# EAGLE library part LM324N (library LM324N)
Check availability <https://pricing.snapeda.com/parts/LM324N/STMicroelectronics/view-part?ref=eda>
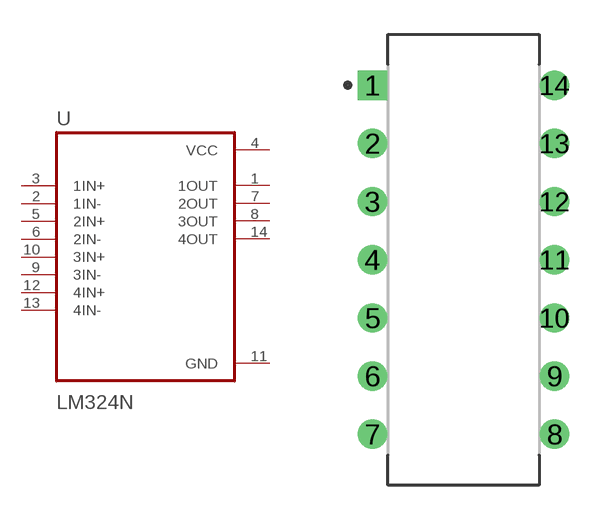
[diagram p0: symbol with the pads of DIP794W45P254L1969H508Q14; footprint DIP794W45P254L1969H508Q14]

Designator prefix U

## LM324N (Availability: In Stock; Check_prices: https://www.snapeda.com/parts/LM324N/STMicroelectronics/view-part/?ref=eda; Description: Operational amplifier; 3÷32VDC; Channels: 4; DIP14; MF: STMicroelectronics; MP: LM324N; Package: DIP-14 Motorola; Price: None; Purchase-URL: https://www.snapeda.com/api/url_track_click_mouser/?unipart_id=18365&manufacturer=STMicroelectronics&part_name=LM324N&search_term=None; SnapEDA_Link: https://www.snapeda.com/parts/LM324N/STMicroelectronics/view-part/?ref=snap)  [DIP794W45P254L1969H508Q14]
1  1OUT  out
2  1IN-  in
3  1IN+  in
4  VCC  pwr
5  2IN+  in
6  2IN-  in
7  2OUT  out
8  3OUT  out
9  3IN-  in
10  3IN+  in
11  GND  pwr
12  4IN+  in
13  4IN-  in
14  4OUT  out

## Footprint DIP794W45P254L1969H508Q14 (pad centres in mm)
drill 0.77 pad 1.17 square: 1 -3.97,7.62
drill 0.77 pad 1.17: 2 -3.97,5.08; 3 -3.97,2.54; 4 -3.97,0; 5 -3.97,-2.54; 6 -3.97,-5.08; 7 -3.97,-7.62; 8 3.97,-7.62; 9 3.97,-5.08; 10 3.97,-2.54; 11 3.97,0; 12 3.97,2.54; 13 3.97,5.08; 14 3.97,7.62